# Altium footprint library CX80B1-24P.PcbLib: 1 footprints
Each footprint in its own frame and in the unit in brackets; x right, y up, seen from the top. Pads: shape width x height; smd on the part's side, far side on the other; paste and mask are expansions set on the pad; w line width, h text height; cw(c..) or ccw(c..) is an arc to the next point about the centre after c.
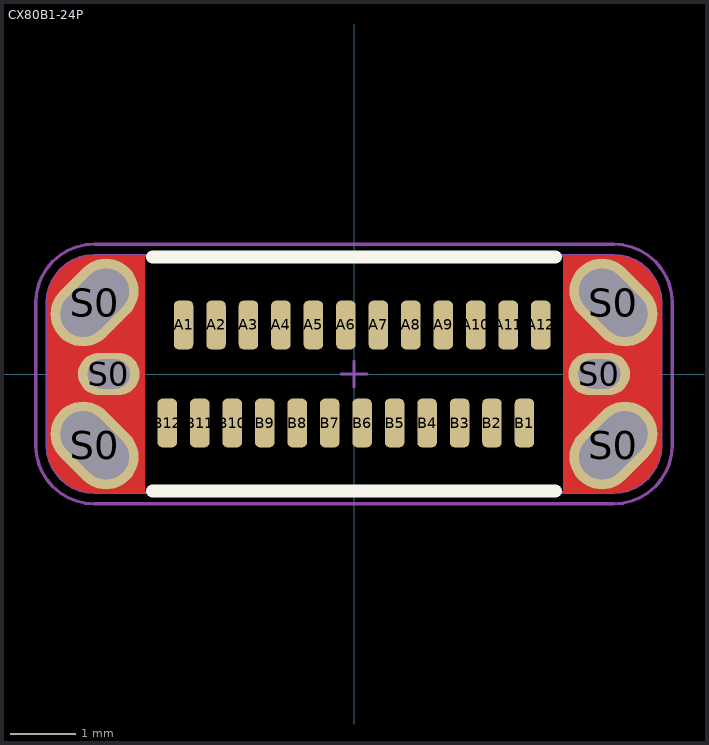
[diagram p0: the footprint, top view; thin cyan lines are the x and y axes]

## CX80B1-24P [mm]
pads (30):
  rrect50% 0.3x0.75 smd mask+0.05: A1(-2.625,0.755) A2(-2.125,0.755) A3(-1.625,0.755) A4(-1.125,0.755) A5(-0.625,0.755) A6(-0.125,0.755) A7(0.375,0.755) A8(0.875,0.755) A9(1.375,0.755) A10(1.875,0.755) A11(2.375,0.755) A12(2.875,0.755) B1(2.625,-0.755) B2(2.125,-0.755) B3(1.625,-0.755) B4(1.125,-0.755) B5(0.625,-0.755) B6(0.125,-0.755) B7(-0.375,-0.755) B8(-0.875,-0.755) B9(-1.375,-0.755) B10(-1.875,-0.755) B11(-2.375,-0.755) B12(-2.875,-0.755)
  oval 1.5x1 hole 0.7 slot 1.2 at 135 deg rot 135 mask+0.05: S0(-3.995,-1.1) S0(3.995,1.1)
  oval 1.5x1 hole 0.7 slot 1.2 at 45 deg rot 45 mask+0.05: S0(-3.995,1.1) S0(3.995,-1.1)
  oval 0.95x0.65 hole 0.45 slot 0.65 at 0 deg mask+0.05: S0(-3.775,0) S0(3.775,0)
Top Layer:
  region: 3.225,1.825 3.225,-1.825 4,-1.825 4.071,-1.825 4.211,-1.797 4.343,-1.742 4.462,-1.663 4.563,-1.562 4.642,-1.443 4.697,-1.311 4.725,-1.171 4.725,-1.1 4.725,1.1 4.725,1.171 4.697,1.311 4.642,1.443 4.563,1.562 4.462,1.663 4.343,1.742 4.211,1.797 4.071,1.825 4,1.825
  region: -3.225,-1.825 -3.225,1.825 -4,1.825 -4.071,1.825 -4.211,1.797 -4.343,1.742 -4.462,1.663 -4.563,1.562 -4.642,1.443 -4.697,1.311 -4.725,1.171 -4.725,1.1 -4.725,-1.1 -4.725,-1.171 -4.697,-1.311 -4.642,-1.443 -4.563,-1.562 -4.462,-1.663 -4.343,-1.742 -4.211,-1.797 -4.071,-1.825 -4,-1.825
Top Overlay:
  lines w0.2: -3.1,-1.8 3.1,-1.8 ; -3.1,1.8 3.1,1.8
Top Assembly:
  lines w0.05: -4.725,1.1 cw(c-4,1.1) -4,1.825 4,1.825 cw(c4,1.1) 4.725,1.1 4.725,-1.1 ; -4.725,1.1 -4.725,-1.1 ccw(c-4,-1.1) -4,-1.825 4,-1.825 ccw(c4,-1.1) 4.725,-1.1 ; -4.725,1.1 -4.725,1.1 ; 4.725,-1.1 4.725,-1.1
Top Courtyard:
  lines w0.05: -0.2,0 0.2,0 ; 0,-0.2 0,0.2 ; -4.9,-1.1 ccw(c-4,-1.1) -4,-2 4,-2 ccw(c4,-1.1) 4.9,-1.1 4.9,1.1 ccw(c4,1.1) 4,2 -4,2 ccw(c-4,1.1) -4.9,1.1 -4.9,-1.1
3D body "CX80B1-24P_3D_STEP v1.step": height 7.17, standoff -0.93, extent -4.765,-2.5 4.775,2.5